# Altium schematic symbol library NCP1117LPST33T3G.SchLib: 1 symbol
Pins are listed as number, name and electrical type; pins without a type are passive.

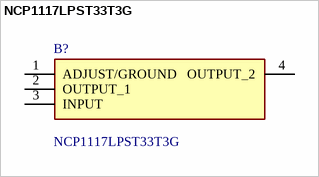
[diagram p0: symbol NCP1117LPST33T3G]

## NCP1117LPST33T3G
designator B?
Output Current in Excess of 1.0 A; Manufacturer_Name: onsemi; Geometry.Height: 1.8mm; Mouser Part Number: 863-NCP1117LPST33T3G; Mouser Price/Stock: https://www.mouser.co.uk/ProductDetail/onsemi/NCP1117LPST33T3G?qs=kbSN2QblFfKG9A4Foh4YYg%3D%3D; Manufacturer_Part_Number: NCP1117LPST33T3G; Datasheet Link: https://www.onsemi.com/pub/Collateral/NCP1117LP-D.PDF
footprint SOT230P700X180-4N
pins: 1 ADJUST/GROUND, 2 OUTPUT_1, 3 INPUT, 4 OUTPUT_2